# EAGLE library part MC100EP05DG (library ON Semiconductor_By_element14_Batch_1)
3.3V / 5V ECL 2-Input Differential AND/NAND
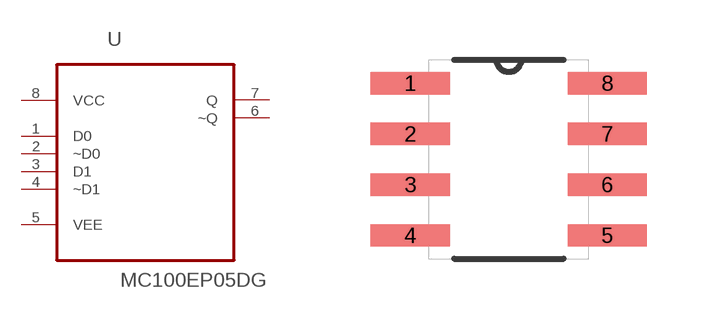
[diagram p95: symbol with the pads of SOIC127P600X175-8N; footprint SOIC127P600X175-8N]

Designator prefix U

## MC100EP05DG (MPN: MC100EP05DG; OC_FARNELL: 1607761; OC_NEWARK: 71J5404; P1I: o; PACKAGE: SOIC-8; SUPPLIER: Onsemiconductor)  [SOIC127P600X175-8N]
1  D0  in
2  ~D0  in
3  D1  in
4  ~D1  in
5  VEE  pwr
6  ~Q  out
7  Q  out
8  VCC  pwr

## Footprint SOIC127P600X175-8N (pad centres in mm)
smd 1.981 x 0.559: 1 -2.464,1.905; 2 -2.464,0.635; 3 -2.464,-0.635; 4 -2.464,-1.905; 5 2.464,-1.905; 6 2.464,-0.635; 7 2.464,0.635; 8 2.464,1.905